# EAGLE library part TPS7A8001DRBR (library isg-clock-generator)
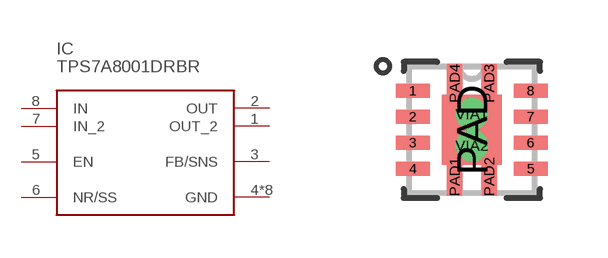
[diagram p2: symbol with the pads of DRB8_1P75X1P5; footprint DRB8_1P75X1P5]

Designator prefix IC

## TPS7A8001DRBR (VALUE: TPS7A8001DRBR)  [DRB8_1P75X1P5]
1  OUT_2  out
2  OUT  out
3  FB/SNS  in
4  GND  pwr
5  EN  pas
6  NR/SS  pas
7  IN_2  in
8  IN  in
PAD  GND  pwr
PAD1  GND  pwr
PAD2  GND  pwr
PAD3  GND  pwr
PAD4  GND  pwr
VIA1  GND  pwr
VIA2  GND  pwr

## Footprint DRB8_1P75X1P5 (pad centres in mm)
smd 0.85 x 0.35: 1 -1.475,0.975; 2 -1.475,0.325; 3 -1.475,-0.325; 4 -1.475,-0.975; 5 1.475,-0.975; 6 1.475,-0.325; 7 1.475,0.325; 8 1.475,0.975
smd 1.5 x 1.75: PAD 0,0
smd 0.381 x 0.965: PAD1 -0.432,-1.168; PAD2 0.432,-1.168; PAD3 0.432,1.168; PAD4 -0.432,1.168
drill 0.3 pad 0.61: VIA1 0,0.394; VIA2 0,-0.394